# Altium schematic symbol library Led Green 0805.Schlib: 1 symbol
Pins are listed as number, name and electrical type; pins without a type are passive.

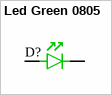
[diagram p0: symbol Led Green 0805]

## Led Green 0805
designator D?, comment Led Green  (value not drawn)
LCSC Part #: C84256
footprint CH0805LG
pins: 1, 2